# EAGLE library part BLUETOOTH (library StasDuinoLib2)
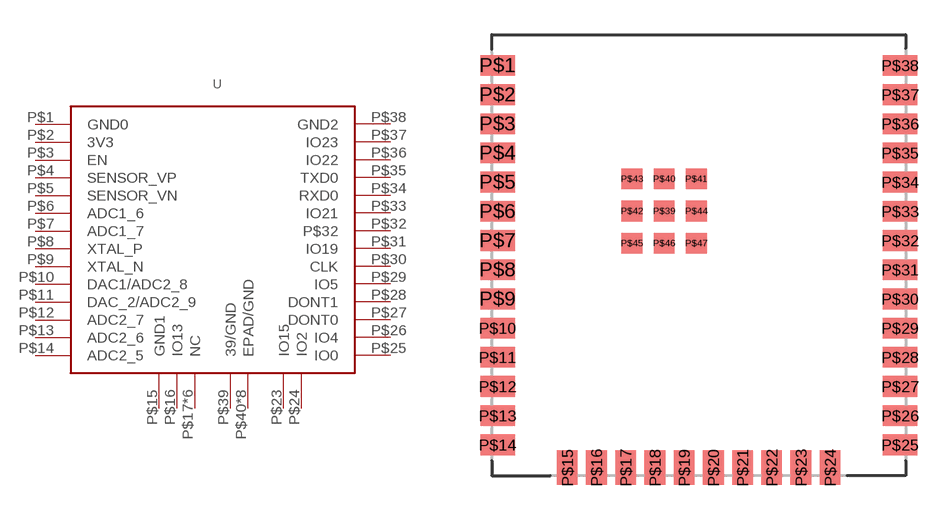
[diagram p5: symbol with the pads of BLUETOOTH; footprint BLUETOOTH]

Designator prefix -

## BLUETOOTH  [BLUETOOTH]
P$1  GND0
P$2  3V3
P$3  EN
P$4  SENSOR_VP
P$5  SENSOR_VN
P$6  ADC1_6
P$7  ADC1_7
P$8  XTAL_P
P$9  XTAL_N
P$10  DAC1/ADC2_8
P$11  DAC_2/ADC2_9
P$12  ADC2_7
P$13  ADC2_6
P$14  ADC2_5
P$15  GND1
P$16  IO13
P$17  NC  nc
P$18  NC  nc
P$19  NC  nc
P$20  NC  nc
P$21  NC  nc
P$22  NC  nc
P$23  IO15
P$24  IO2
P$25  IO0
P$26  IO4
P$27  DONT0
P$28  DONT1
P$29  IO5
P$30  CLK
P$31  IO19
P$32  P$32
P$33  IO21
P$34  RXD0
P$35  TXD0
P$36  IO22
P$37  IO23
P$38  GND2
P$39  39/GND
P$40  EPAD/GND
P$41  EPAD/GND
P$42  EPAD/GND
P$43  EPAD/GND
P$44  EPAD/GND
P$45  EPAD/GND
P$46  EPAD/GND
P$47  EPAD/GND

## Footprint BLUETOOTH (pad centres in mm)
smd 1.5 x 0.9: P$1 -8.75,8.255; P$2 -8.75,6.985; P$3 -8.75,5.715; P$4 -8.75,4.445; P$5 -8.75,3.175; P$6 -8.75,1.905; P$7 -8.75,0.635; P$8 -8.75,-0.635; P$9 -8.75,-1.905; P$10 -8.75,-3.175; P$11 -8.75,-4.445; P$12 -8.75,-5.715; P$13 -8.75,-6.985; P$14 -8.75,-8.255; P$25 8.76,-8.255; P$26 8.76,-6.985; P$27 8.76,-5.715; P$28 8.76,-4.445; P$29 8.76,-3.175; P$30 8.76,-1.905; P$31 8.76,-0.635; P$32 8.76,0.635; P$33 8.76,1.905; P$34 8.76,3.175; P$35 8.76,4.445; P$36 8.76,5.715; P$37 8.76,6.985; P$38 8.76,8.255
smd 0.9 x 1.5: P$15 -5.715,-9.255; P$16 -4.45,-9.255; P$17 -3.175,-9.255; P$18 -1.905,-9.255; P$19 -0.635,-9.255; P$20 0.635,-9.255; P$21 1.905,-9.255; P$22 3.175,-9.255; P$23 4.445,-9.255; P$24 5.715,-9.255
smd 0.9 x 0.9: P$39 -1.5,1.915; P$40 -1.5,3.315; P$41 -0.1,3.315; P$42 -2.9,1.915; P$43 -2.9,3.315; P$44 -0.1,1.915; P$45 -2.9,0.515; P$46 -1.5,0.515; P$47 -0.1,0.515